# Altium schematic symbol library Connectors.SchLib: 84 symbols (part 2 of 3)
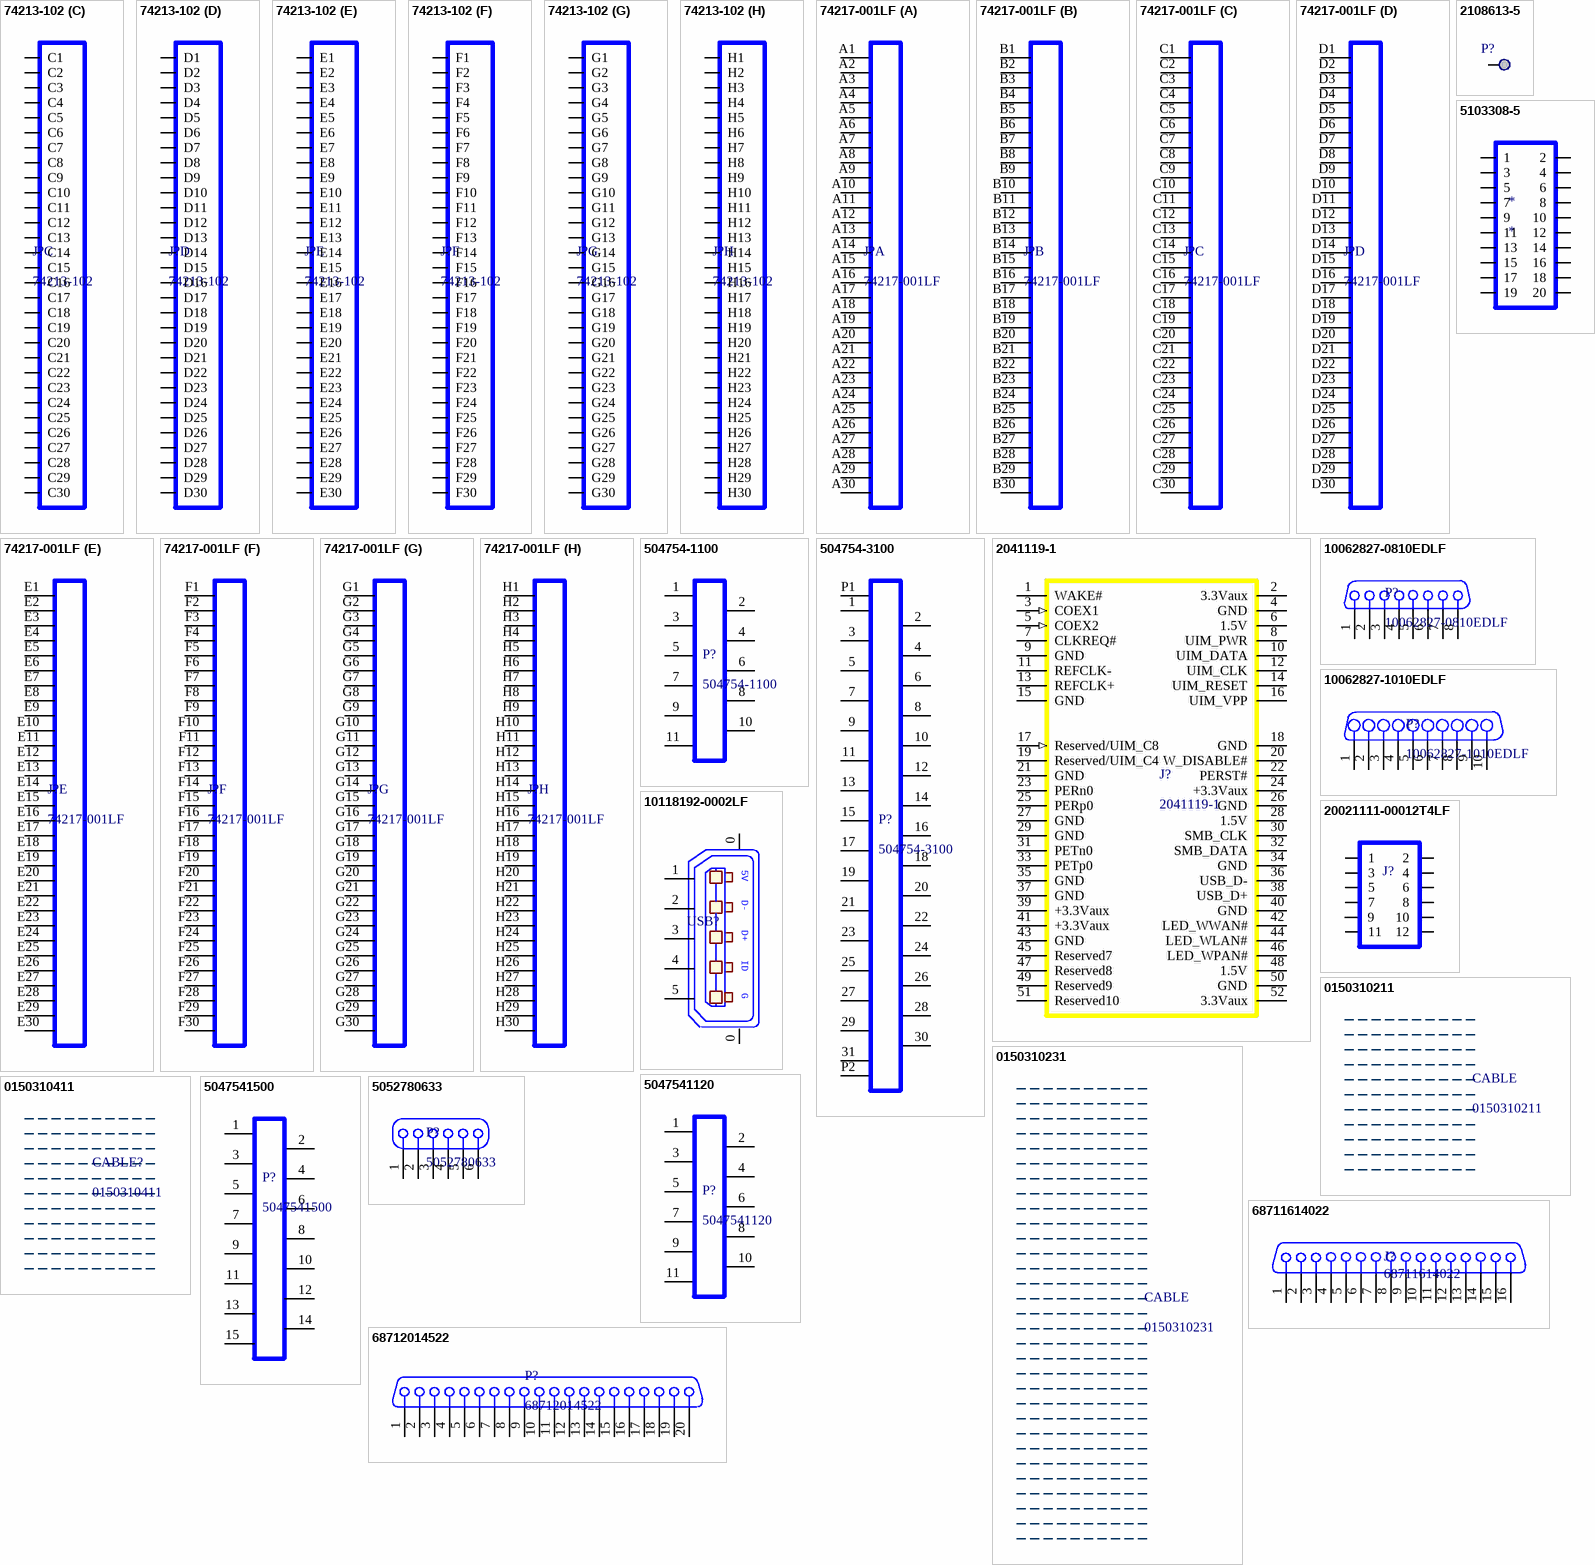
[diagram p4: symbols 74213-102 to 68712014522]

## 68711614022
designator J?
CONN FPC TOP 16POS 0.50MM R/A; Manufacturer: Wurth Electronics Inc; Connector/Contact Type: Contacts, Top; Number of Positions: 16; Pitch: 0.020" (0.50mm); FFC, FCB Thickness: 0.30mm; Locking Feature: Slide Lock; Cable End Type: Tapered; Actuator Material: Liquid Crystal Polymer (LCP); Voltage Rating: 50V; Material Flammability Rating: UL94 V-0; Current Rating: 0.5A; Supplier 1: Digi-Key; Manufacturer Part Number: 68711614022; RoHS: RoHS Compliant; Category: Connectors, Interconnects; Stock 1: 1339; Pricing 1: 1=1.08, 10=1.05, 50=0.978, 100=0.905, 500=0.83276, 1000=0.76056 (GBP); Packaging: Digi-Reel®; Part Status: Active; Flat Flex Type: FPC; Mounting Type: Surface Mount, Right Angle; Termination: Solder; Height Above Board: 0.079" (2.00mm); Contact Material: Phosphor Bronze; Contact Finish: Tin; Housing Material: Liquid Crystal Polymer (LCP); Features: Zero Insertion Force (ZIF); Operating Temperature: -25°C ~ 85°C; ComponentLink1URL: http://katalog.we-online.de/em/datasheet/6871xx14022.pdf; ComponentLink1Description: http://katalog.we-online.de/em/datasheet/6871xx14022.pdf; Supplier Part Number 1: 732-2023-6-ND
footprint 68711614022 (16 pins)
pins: 1, 2, 3, 4, 5, 6, 7, 8, 9, 10, 11, 12, 13, 14, 15, 16

## 68712014522
designator P?
CONN FPC TOP 20POS 0.50MM R/A; Manufacturer: Wurth Electronics Inc; Connector Type: Bottom Contacts; Number of Positions: 20; Pitch: 0.020" (0.50mm); FFC, FCB Thickness: 0.30mm; Cable End Type: Tapered; Locking Feature: Flip Lock; Current Rating: 0.5A; Voltage Rating: 50V; Supplier 1: Digi-Key; Manufacturer Part Number: 68712014522; RoHS: RoHS Compliant; Category: Connectors, Interconnects; Stock 1: 3216; Pricing 1: 1=3.7, 10=3.541, 25=3.2464, 50=3.0986, 100=2.9512, 250=2.58228, 500=2.50846, 1000=2.13958 (EUR); Packaging: Digi-Reel®; Height Above Board: 0.079" (2.00mm); Mounting Type: Surface Mount, Right Angle; Termination: Solder; Features: Zero Insertion Force (ZIF); Contact Finish: Tin; Contact Finish Thickness: 100µin (2.54µm); Operating Temperature: -25°C ~ 85°C; Housing Material: Liquid Crystal Polymer (LCP); ComponentLink1URL: http://katalog.we-online.de/em/datasheet/6871xx14522.pdf; ComponentLink1Description: http://katalog.we-online.de/em/datasheet/6871xx14522.pdf; Supplier Part Number 1: 732-2017-6-ND
footprint WURTH_68712014522 (FFC, 20p, SMD)
pins: 1, 2, 3, 4, 5, 6, 7, 8, 9, 10, 11, 12, 13, 14, 15, 16, 17, 18, 19, 20

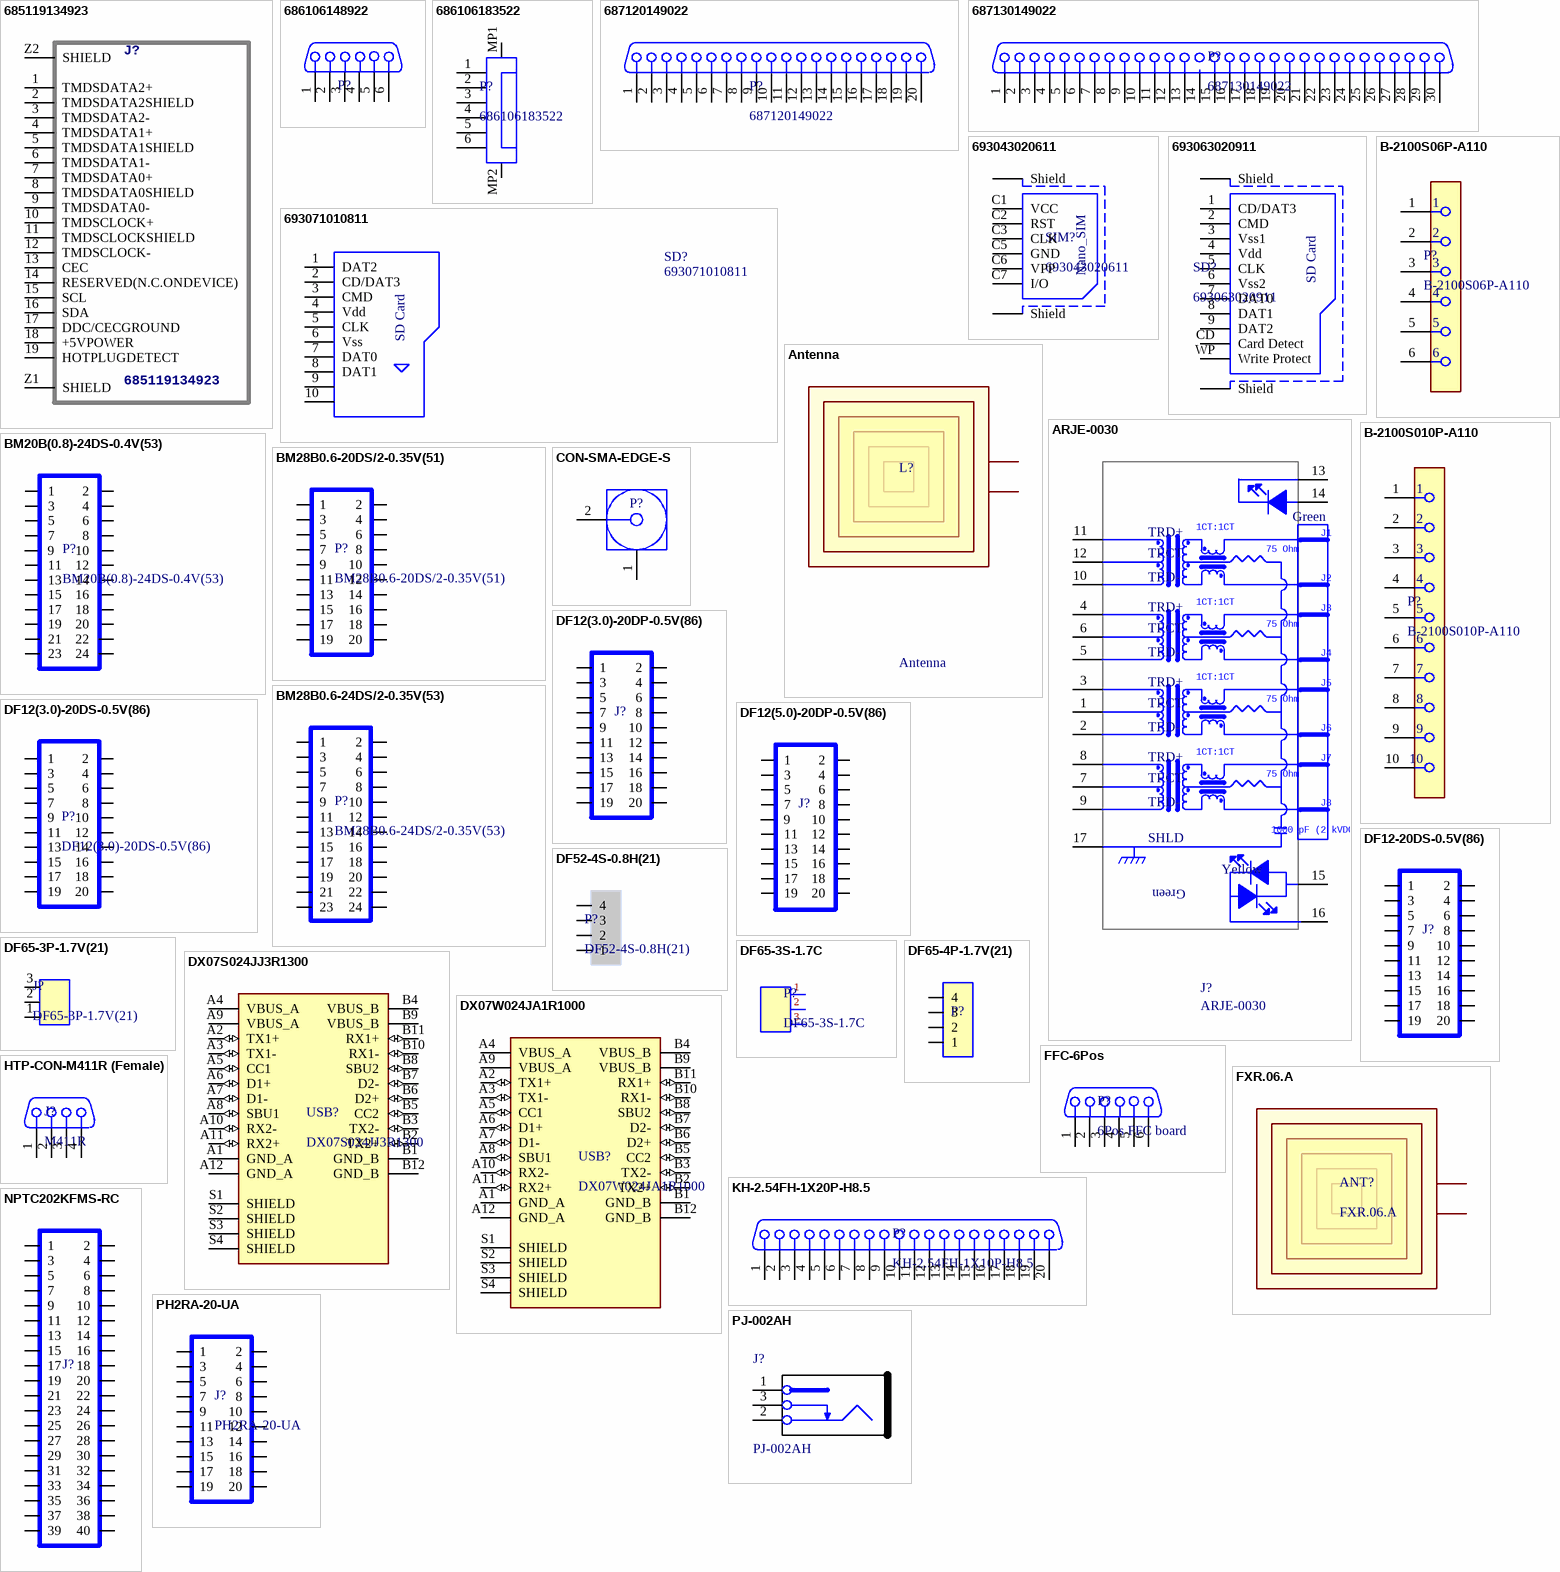
[diagram p2: symbols 685119134923 to PJ-002AH]

## 685119134923
designator J?
CONN RCPT HDMI 19POS SMD R/A; Manufacturer: Wurth Electronics Inc; Number of Contacts: 19; Gender: Receptacle; Supplier 1: Digi-Key; Manufacturer Part Number: 685119134923; RoHS: RoHS Compliant; Category: Connectors, Interconnects; Stock 1: 1468; Pricing 1: 1=2.3, 10=2.234, 50=2.0248, 100=1.8155 (GBP); Packaging: Digi-Reel®; Part Status: Active; Connector Type: HDMI; Specifications: -; Mounting Type: Surface Mount, Right Angle, Horizontal; Features: Board Guide, Shielded; Ingress Protection: -; ComponentLink1URL: http://katalog.we-online.de/em/datasheet/685119134923.pdf; ComponentLink1Description: http://katalog.we-online.de/em/datasheet/685119134923.pdf; Supplier Part Number 1: 732-2737-6-ND
footprint 685119134923
pins: 1 TMDSDATA2+, 2 TMDSDATA2SHIELD, 3 TMDSDATA2-, 4 TMDSDATA1+, 5 TMDSDATA1SHIELD, 6 TMDSDATA1-, 7 TMDSDATA0+, 8 TMDSDATA0SHIELD, 9 TMDSDATA0-, 10 TMDSCLOCK+, 11 TMDSCLOCKSHIELD, 12 TMDSCLOCK-, 13 CEC, 14 RESERVED(N.C.ONDEVICE), 15 SCL, 16 SDA, 17 DDC/CECGROUND, 18 +5VPOWER, 19 HOTPLUGDETECT, Z1 SHIELD, Z2 SHIELD

## 686106148922
designator P?  (value not drawn)
CONN 1MM HORZ BOTTOM SMD 6POS; Manufacturer: Wurth Electronics Inc.; Flat Flex Type: FFC, FPC; Connector/Contact Type: Contacts, Bottom; Number of Positions: 6; Pitch: 0.039" (1.00mm); FFC, FCB Thickness: 0.30mm; Locking Feature: Flip Lock; Cable End Type: Straight; Actuator Material: Polyamide (PA6T), Nylon 6T; Voltage Rating: 100V; Material Flammability Rating: UL94 V-0; Current Rating: 1A; Actuator Color: Black; Mating Cycles: 20; Supplier 1: Digi-Key; Manufacturer Part Number: 686106148922; RoHS: RoHS Compliant; Category: Connectors, Interconnects; Stock: 11440; Pricing: 1=0.96, 50=0.915, 100=0.849, 500=0.784, 1000=0.686 (USD); Packaging: Digi-Reel®; Part Status: Active; Mounting Type: Surface Mount, Right Angle; Termination: Solder; Height Above Board: 0.087" (2.20mm); Contact Material: Phosphor Bronze; Contact Finish: Tin; Housing Material: Polyamide (PA6T), Nylon 6T; Features: Solder Retention, Zero Insertion Force (ZIF); Operating Temperature: -40°C ~ 105°C; Contact Finish Thickness: 120.0µin (3.05µm); Housing Color: Ivory; ComponentLink1URL: http://katalog.we-online.de/em/datasheet/6861xx148922.pdf; ComponentLink1Description: http://katalog.we-online.de/em/datasheet/6861xx148922.pdf; Supplier Part Number 1: 732-6017-6-ND
footprint 686106148922 (ZIF Connectors, Horizontal, Bottom Contact Hinge Type, pitch 1mm, 6p)
pins: 1, 2, 3, 4, 5, 6

## 686106183522
designator P?
WURTH ELEKTRONIK - 686106183522 - CONNECTOR, FPC, RCPT, 6POS, 1MM, SMT; Manufacturer: Wurth Electronics; Supplier 1: Digi-Key; Supplier Part Number 1: 732-11327-1-ND; Manufacturer Part Number: 686106183522; Stock 1: 2503; Pricing 1: 1 = 1.50000, 10 = 1.35000, 100 = 1.15000, 1000 = 1.05001 (USD); RoHS: No
footprint 686106183522 (ZIF Connectors, Horizontal, Bottom Contact Low Profile, pitch 1mm, 6p)
pins: 1, 2, 3, 4, 5, 6, MP1, MP2

## 687120149022
designator P?
CONN .5MM HORZ BOTTOM SMD 20POS; Manufacturer: Wurth Electronics Inc; Flat Flex Type: FFC, FPC; Connector/Contact Type: Contacts, Bottom; Number of Positions: 20; Pitch: 0.020" (0.50mm); FFC, FCB Thickness: 0.30mm; Locking Feature: Flip Lock; Cable End Type: Straight; Actuator Material: Polyamide (PA6T), Nylon 6T; Voltage Rating: 50V; Material Flammability Rating: UL94 V-0; Current Rating: 0.5A; Supplier 1: Digi-Key; Supplier Part Number 1: 732-6002-6-ND; Manufacturer Part Number: 687120149022; RoHS: RoHS Compliant; Category: Connectors, Interconnects; Stock 1: 3528; Pricing 1: 1=1.6, 50=1.527, 100=1.4183, 500=1.30854, 1000=1.14496 (EUR); Packaging: Digi-Reel®; Part Status: Active; Mounting Type: Surface Mount, Right Angle; Termination: Solder; Height Above Board: 0.087" (2.20mm); Contact Material: Phosphor Bronze; Contact Finish: Tin; Housing Material: Polyamide (PA6T), Nylon 6T; Features: Solder Retention, Zero Insertion Force (ZIF); Operating Temperature: -40°C ~ 105°C; ComponentLink1URL: http://katalog.we-online.de/em/datasheet/6871xx149022.pdf; ComponentLink1Description: http://katalog.we-online.de/em/datasheet/6871xx149022.pdf
footprint 687120149022 (WR-FPC 0.50mm SMT Horiz. Bot. Contact Hinge type WR-FPC 0.50mm 20pins Hinge type SMT Horizontal Bottom Contact)
pins: 1, 2, 3, 4, 5, 6, 7, 8, 9, 10, 11, 12, 13, 14, 15, 16, 17, 18, 19, 20

## 687130149022
designator P?
CONN .5MM HORZ BOTTOM SMD 30POS; Manufacturer: Wurth Electronics Inc; Flat Flex Type: FFC, FPC; Connector/Contact Type: Contacts, Bottom; Number of Positions: 30; Pitch: 0.020" (0.50mm); FFC, FCB Thickness: 0.30mm; Locking Feature: Flip Lock; Cable End Type: Straight; Actuator Material: Polyamide (PA6T), Nylon 6T; Voltage Rating: 50V; Material Flammability Rating: UL94 V-0; Current Rating: 0.5A; Supplier 1: Digi-Key; Supplier Part Number 1: 732-6007-6-ND; Manufacturer Part Number: 687130149022; RoHS: RoHS Compliant; Category: Connectors, Interconnects; Stock 1: 3770; Pricing 1: 1=2, 50=1.8928, 100=1.7544, 500=1.62242, 1000=1.41798 (EUR); Packaging: Digi-Reel®; Part Status: Active; Mounting Type: Surface Mount, Right Angle; Termination: Solder; Height Above Board: 0.087" (2.20mm); Contact Material: Phosphor Bronze; Contact Finish: Tin; Housing Material: Polyamide (PA6T), Nylon 6T; Features: Solder Retention, Zero Insertion Force (ZIF); Operating Temperature: -40°C ~ 105°C; ComponentLink1URL: http://katalog.we-online.de/em/datasheet/6871xx149022.pdf; ComponentLink1Description: http://katalog.we-online.de/em/datasheet/6871xx149022.pdf
footprint 687130149022 (WR-FPC 0.50mm SMT Horiz. Bot. Contact Hinge type WR-FPC 0.50mm 30pins Hinge type SMT Horizontal Bottom Contact)
signal-integrity model Model Name (Model Description)
pins: 1, 2, 3, 4, 5, 6, 7, 8, 9, 10, 11, 12, 13, 14, 15, 16, 17, 18, 19, 20, 21, 22, 23, 24, 25, 26, 27, 28, 29, 30

## 693043020611
designator SIM?
CONN SMART CARD PUSH-PULL; Manufacturer: Wurth Electronics Inc; Card Type: NANO SIM; Number of Positions: 6; Connector Type: Connector; Insertion, Removal Method: Push In, Pull Out; Supplier 1: Digi-Key; Supplier Part Number 1: 732-5954-6-ND; Manufacturer Part Number: 693043020611; RoHS: RoHS Compliant; Category: Connectors, Interconnects; Stock 1: 2345; Pricing 1: 1=1.86, 10=1.791, 50=1.6604, 100=1.5294, 500=1.32818 (EUR); Packaging: Digi-Reel®; Ejector Side: -; Mounting Type: Surface Mount, Right Angle; Features: Shielded; Height Above Board: 0.047" (1.20mm); Mounting Feature: Normal, Standard - Top; Contact Finish: Gold; Contact Finish Thickness: -; ComponentLink1URL: http://katalog.we-online.de/em/datasheet/693043020611.pdf; ComponentLink1Description: http://katalog.we-online.de/em/datasheet/693043020611.pdf
footprint 693043020611 (CONN SMART CARD PUSH-PULL)
pins: C1 VCC, C2 RST, C3 CLK, C5 GND, C6 VPP, C7 I/O, Shield, Shield
text: Nano_SIM

## 693063020911
designator SD?
CONN SD CARD PUSH-PULL R/A SMD; Manufacturer: Wurth Electronics Inc; Card Type: Secure Digital - SD; Number of Positions: 11 (9 + 2); Connector Type: Connector; Insertion, Removal Method: Push In, Pull Out; Supplier 1: Digi-Key; Supplier Part Number 1: 732-3818-6-ND; Manufacturer Part Number: 693063020911; RoHS: RoHS Compliant; Category: Connectors, Interconnects; Stock 1: 632; Pricing 1: 1=3.87, 10=3.721, 50=3.2738, 100=3.1251 (EUR); Packaging: Digi-Reel®; Part Status: Active; Ejector Side: -; Mounting Type: Surface Mount, Right Angle; Features: Switch; Height Above Board: 0.110" (2.80mm); Mounting Feature: Normal, Standard - Top; Contact Finish: Gold; Contact Finish Thickness: -; ComponentLink1URL: http://katalog.we-online.de/em/datasheet/693063020911.pdf; ComponentLink1Description: http://katalog.we-online.de/em/datasheet/693063020911.pdf
footprint 693063020911 (WR-CRD SD_Push and Pull_Short Version with Card Detection_9 pins)
pins: 1 CD/DAT3, 2 CMD, 3 Vss1, 4 Vdd, 5 CLK, 6 Vss2, 7 DAT0, 8 DAT1, 9 DAT2, CD Card Detect, Shield, Shield, WP Write Protect
text: SD Card

## 693071010811
designator SD?
WR-CRD Micro SD Card Connector Push & Push - 8 pins; Manufacturer: Wurth Electronics Inc; Card Type: Secure Digital - microSD™; Number of Positions: 9 (8 + 1); Connector Type: Connector and Ejector; Insertion, Removal Method: Push In, Push Out; Published: June 2016; Publisher: Wurth Elektronik; ComponentLink1Description: Manufacturer; ComponentLink1URL: http://www.we-online.de; ComponentLink2Description: Datasheet; ComponentLink2URL: http://katalog.we-online.de/em/datasheet/693071010811.pdf; PartNumber: 693071010811; Supplier 1: Digi-Key; Manufacturer Part Number: 693071010811; RoHS: RoHS Compliant; Category: Connectors, Interconnects; Stock 1: 1613; Pricing 1: 1=2.85, 10=2.74, 50=2.4106, 100=2.301, 500=1.97232 (GBP); Packaging: Digi-Reel®; Part Status: Active; Ejector Side: -; Mounting Type: Surface Mount, Right Angle; Features: Switch; Height Above Board: 0.072" (1.83mm); Mounting Feature: Normal, Standard - Top; Contact Finish: Gold; Contact Finish Thickness: -; Supplier Part Number 1: 732-3819-6-ND
footprint 693071010811 (WR-CRD Micro SD_Push and Push_Card Detection_8 pins)
pins: 1 DAT2, 2 CD/DAT3, 3 CMD, 4 Vdd, 5 CLK, 6 Vss, 7 DAT0, 8 DAT1, 9, 10
text: SD Card

## Antenna
designator L?
Patch Antenna

## ARJE-0030
designator J?
CONN MAGJACK 1PORT 1000 BASE-T; Manufacturer: Abracon LLC; Connector Type: RJ45; Number of Ports: 1; LED Color: Green, Orange - Yellow; Number of Cores per Jack: 8; Shielding: Shielded, EMI Finger; Tab Direction: Up; Supplier 1: Digi-Key; Manufacturer Part Number: ARJE-0030; RoHS: RoHS Compliant; Category: Connectors, Interconnects; Stock 1: 322; Pricing 1: 1=3.92, 10=3.766, 50=3.2956, 100=3.1387, 500=2.66786, 750=2.43247, 1000=2.27553, 2500=2.1186, 5000=2.04013 (GBP); Packaging: Tray; Part Status: Active; Number of Rows: 1; Applications: 10/100/1000 Base-T, AutoMDIX; Mounting Type: Through Hole; Orientation: 90° Angle (Right); Termination: Solder; Height Above Board: 0.541" (13.75mm); Features: Board Guide; Contact Material: -; Contact Finish: -; Contact Finish Thickness: -; Shield Material: -; Housing Material: -; Operating Temperature: 0°C ~ 70°C; ComponentLink1URL: http://www.abracon.com/Magnetics/lan/ARJE-0030.PDF; ComponentLink1Description: http://www.abracon.com/Magnetics/lan/ARJE-0030.PDF; Supplier Part Number 1: 535-12440-ND
footprint ARJE-0030 (CONN MAGJACK 1PORT 1000 BASE-T)
pins: 1, 2, 3, 4, 5, 6, 7, 8, 9, 10, 11, 12, 13, 14, 15, 16, 17
text: Green; 1CT:1CT; TRD+; J1; 75 Ohm; TRCT; TRD-; J2; J3; J4; J5; J6; J7; J8; 1000 pF (2 kVDC); SHLD; Yellow

## B-2100S06P-A110
designator P?
-40℃~+105℃ 1 1x6P 2.54mm 2.54mm 3A 3mm 6P 6mm Black Brass Pin Header Through Hole 插件,P=2.54mm Pin Headers ROHS
footprint FP-SSQ-106-23-F-S-MFG
pins: 1, 2, 3, 4, 5, 6

## B-2100S010P-A110
designator P?
-40℃~+105℃ 1 10P 1x10P 2.54mm 2.54mm 3A 3mm 6mm Black Brass Pin Header Through Hole 插件,P=2.54mm Pin Headers ROHS
footprint FP-SSQ-110-23-F-S
pins: 1, 2, 3, 4, 5, 6, 7, 8, 9, 10

## BM20B(0.8)-24DS-0.4V(53)
designator P?
CONN RECEPT 24POS 0.4MM SMD; Manufacturer: Hirose Electric Co Ltd; Connector Type: Receptacle, Center Strip Contacts; Number of Positions: 24; Pitch: 0.016" (0.40mm); Mated Stacking Heights: 0.8mm; Supplier 1: Digi-Key; Manufacturer Part Number: BM20B(0.8)-24DS-0.4V(53); RoHS: RoHS Compliant; Category: Connectors, Interconnects; Stock: 2387; Pricing: 1=1.34, 10=1.178, 25=1.1088, 50=1.0626, 100=1.0164, 250=0.924, 500=0.8316 (USD); Packaging: Digi-Reel®; Part Status: Active; Mounting Type: Surface Mount; Features: Solder Retention; Contact Finish: Gold; Contact Finish Thickness: -; Height Above Board: 0.031" (0.80mm); ComponentLink1URL: https://www.hirose.com/product/en/download_file/key_name/BM20/category/Catalog/doc_file_id/47513/?file_category_id=4&item_id=236&is_series=1; ComponentLink1Description: https://www.hirose.com/product/en/download_file/key_name/BM20/category/Catalog/doc_file_id/47513/?file_category_id=4&item_id=236&is_series=1; Supplier Part Number 1: H122167DKR-ND
footprint BM20B(0.8)-24DS-0.4V(53)
pins: 1, 2, 3, 4, 5, 6, 7, 8, 9, 10, 11, 12, 13, 14, 15, 16, 17, 18, 19, 20, 21, 22, 23, 24

## BM28B0.6-20DS/2-0.35V(51)
designator P?
Board to Board & Mezzanine Connectors 20P Receptacle Straight SMT; Manufacturer: Hirose; Supplier: Digikey; Supplier Part Number: 26-BM28B0.6-20DS/2-0.35V(51)CT-ND; Manufacturer Part Number: BM28B0.6-20DS/2-0.35V(51); RoHS: Yes; Category: Connectors; Stock: 18173; Pricing: 1=1.05, 10=0.891, 25=0.8544, 50=0.8362, 100=0.7999, 250=0.7272, 500=0.65448, 1000=0.58176, 2500=0.52722 (USD); ComponentLink1URL: https://www.hirose.com/product/download/?distributor=digi&amp;type=catalogue&amp;lang=en&amp;series=BM28&src-supplier=Digikey; ComponentLink1Description: https://www.hirose.com/product/download/?distributor=digi&amp;type=catalogue&amp;lang=en&amp;series=BM28&src-supplier=Digikey; ComponentLink2URL: https://datasheet.octopart.com/BM28B0.6-20DS-2-0.35V%2851%29-Hirose-datasheet-150019143.pdf?src-supplier=Sager+Electronics; ComponentLink2Description: https://datasheet.octopart.com/BM28B0.6-20DS-2-0.35V%2851%29-Hirose-datasheet-150019143.pdf?src-supplier=Sager+Electronics; Supplier 1: Digikey; Supplier Part Number 1: 26-BM28B0.6-20DS/2-0.35V(51)DKR-ND
footprint BM28B0.6-20DS/2-0.35V(51)
pins: 1, 2, 3, 4, 5, 6, 7, 8, 9, 10, 11, 12, 13, 14, 15, 16, 17, 18, 19, 20

## BM28B0.6-24DS/2-0.35V(53)
designator P?
24 Position Straight SMT Type Receptacle Board to Board or Board to FPC; Manufacturer: Hirose; Supplier: Farnell; Supplier Part Number: 3361103; Manufacturer Part Number: BM28B0.6-24DS/2-0.35V(53); RoHS: Yes; Category: Connectors; Stock: 820; Pricing: 1=0,775, 25=0,723, 75=0,671, 200=0,638, 500=0,604 (EUR); ComponentLink1URL: https://www.hirose.com/product/download/?distributor=digi&amp;type=catalogue&amp;lang=en&amp;series=BM28&src-supplier=Digi-Key; ComponentLink1Description: https://www.hirose.com/product/download/?distributor=digi&amp;type=catalogue&amp;lang=en&amp;series=BM28&src-supplier=Digi-Key; ComponentLink2URL: https://datasheet.octopart.com/BM28B0.6-24DS-2-0.35V%2853%29-Hirose-datasheet-155958313.pdf?src-supplier=Sager+Electronics; ComponentLink2Description: https://datasheet.octopart.com/BM28B0.6-24DS-2-0.35V%2853%29-Hirose-datasheet-155958313.pdf?src-supplier=Sager+Electronics; Supplier 1: Farnell; Supplier Part Number 1: 3361103
footprint BM28B06-24DS/2035V(53)
pins: 1, 2, 3, 4, 5, 6, 7, 8, 9, 10, 11, 12, 13, 14, 15, 16, 17, 18, 19, 20, 21, 22, 23, 24

## CON-SMA-EDGE-S
designator P?  (value not drawn)
CONN SMA JACK STR EDGE MNT; Manufacturer: RF Solutions; Connector Type: SMA,Socket; Number of Ports: 1; Supplier 1: Digi-Key; Supplier Part Number 1: CON-SMA-EDGE-S-ND; Manufacturer Part Number: CON-SMA-EDGE-S; RoHS: Yes; Category: RF / Coaxial Connectors; Stock 1: 4182; Pricing 1: 1=1.70000 (USD); Mount: Edge; Case/Package: SMA; Package Quantity: 1; Fastening Type: Threaded; Termination: Solder; ComponentLink1URL: https://media.digikey.com/pdf/Data%20Sheets/RF%20Solutions%20PDFs/CON-SMA-EDGE.pdf?src-supplier=Digi-Key; ComponentLink1Description: https://media.digikey.com/pdf/Data%20Sheets/RF%20Solutions%20PDFs/CON-SMA-EDGE.pdf?src-supplier=Digi-Key
footprint FP-CON-SMA-EDGE-S-MFG
pins: 1 GND (power), 2 Signal "Signal Pin"

## DF12(3.0)-20DP-0.5V(86)
designator J?  (value not drawn)
CONN HEADER 20POS 3MM SMD 0.5MM; Manufacturer: Hirose Electric Co Ltd; Connector Type: Header, Outer Shroud Contacts; Number of Positions: 20; Pitch: 0.020" (0.50mm); Supplier 1: Digi-Key; Manufacturer Part Number: DF12(3.0)-20DP-0.5V(86); RoHS: RoHS Compliant; Category: Connectors, Interconnects; Stock 1: 7297; Pricing 1: 1=0.96, 10=0.842, 25=0.792, 50=0.759, 100=0.726, 250=0.66, 500=0.594 (USD); Packaging: Digi-Reel®; Part Status: Active; Number of Rows: 2; Mounting Type: Surface Mount; Features: Board Guide, Solder Retention; Contact Finish: Gold; Contact Finish Thickness: 8µin (0.20µm); Mated Stacking Heights: 3mm; Height Above Board: 0.091" (2.30mm); ComponentLink1URL: https://www.hirose.com/product/download/?distributor=digikey&type=2d&lang=en&num=DF12(3.0)-20DP-0.5V(86); ComponentLink1Description: https://www.hirose.com/product/download/?distributor=digikey&type=2d&lang=en&num=DF12(3.0)-20DP-0.5V(86); Supplier Part Number 1: H11747DKR-ND
footprint DF12-20DP-0.5V (20 Position Connector Header, Outer Shroud Contacts Surface Mount Gold)
pins: 1, 2, 3, 4, 5, 6, 7, 8, 9, 10, 11, 12, 13, 14, 15, 16, 17, 18, 19, 20

## DF12(3.0)-20DS-0.5V(86)
designator P?
CONN RECEPT 20POS 3MM SMD 0.5MM; Manufacturer: Hirose Electric Co Ltd; Connector Type: Receptacle, Center Strip Contacts; Number of Positions: 20; Pitch: 0.020" (0.50mm); Supplier 1: Digi-Key; Manufacturer Part Number: DF12(3.0)-20DS-0.5V(86); RoHS: RoHS Compliant; Category: Connectors, Interconnects; Stock: 9700; Pricing: 1=0.89, 10=0.785, 25=0.7392, 50=0.7084, 100=0.6776, 250=0.616, 500=0.5544 (USD); Packaging: Digi-Reel®; Part Status: Active; Mounting Type: Surface Mount; Features: Board Guide, Solder Retention; Contact Finish: Gold; Contact Finish Thickness: 8.00µin (0.203µm); Mated Stacking Heights: 3mm; Height Above Board: 0.087" (2.20mm); ComponentLink1URL: https://www.hirose.com/product/download/?distributor=digikey&type=2d&lang=en&num=DF12(3.0)-20DS-0.5V(86); ComponentLink1Description: https://www.hirose.com/product/download/?distributor=digikey&type=2d&lang=en&num=DF12(3.0)-20DS-0.5V(86); Supplier Part Number 1: H11748DKR-ND
footprint DF12(3.0)-20DS-0.5V(86)
pins: 1, 2, 3, 4, 5, 6, 7, 8, 9, 10, 11, 12, 13, 14, 15, 16, 17, 18, 19, 20

## DF12(5.0)-20DP-0.5V(86)
designator J?  (value not drawn)
CONN HEADER 20POS 5MM SMD 0.5MM; Manufacturer: Hirose Electric Co Ltd; Connector Type: Header, Outer Shroud Contacts; Number of Positions: 20; Pitch: 0.020" (0.50mm); Supplier 1: Digi-Key; Manufacturer Part Number: DF12(5.0)-20DP-0.5V(86); RoHS: RoHS Compliant; Category: Connectors, Interconnects; Stock 1: 8448; Pricing 1: 1=1.02, 10=0.898, 25=0.8448, 50=0.8096, 100=0.7744, 250=0.704, 500=0.6336 (USD); Packaging: Digi-Reel®; Part Status: Active; Number of Rows: 2; Mounting Type: Surface Mount; Features: Board Guide, Solder Retention; Contact Finish: Gold; Contact Finish Thickness: 8µin (0.20µm); Mated Stacking Heights: 5mm; Height Above Board: 0.169" (4.30mm); ComponentLink1URL: https://www.hirose.com/product/download/?distributor=digikey&type=2d&lang=en&num=DF12(5.0)-20DP-0.5V(86); ComponentLink1Description: https://www.hirose.com/product/download/?distributor=digikey&type=2d&lang=en&num=DF12(5.0)-20DP-0.5V(86); Supplier Part Number 1: H5244DKR-ND
footprint DF12-20DP-0.5V (20 Position Connector Header, Outer Shroud Contacts Surface Mount Gold)
pins: 1, 2, 3, 4, 5, 6, 7, 8, 9, 10, 11, 12, 13, 14, 15, 16, 17, 18, 19, 20

## DF12-20DS-0.5V(86)
designator J?  (value not drawn)
CONN RECEPT 20POS 0.5MM GOLD SMD; Manufacturer: Hirose Electric Co Ltd; Connector Type: Receptacle, Center Strip Contacts; Number of Positions: 20; Pitch: 0.020" (0.50mm); Mated Stacking Heights: 3.5mm, 4mm, 5mm; Supplier 1: Digi-Key; Manufacturer Part Number: DF12-20DS-0.5V(86); RoHS: RoHS Compliant; Category: Connectors, Interconnects; Stock 1: 16949; Pricing 1: 1=0.96, 10=0.842, 25=0.792, 50=0.759, 100=0.726, 250=0.66, 500=0.594 (USD); Packaging: Digi-Reel®; Part Status: Active; Number of Rows: 2; Mounting Type: Surface Mount; Features: Board Guide, Solder Retention; Contact Finish: Gold; Contact Finish Thickness: 8µin (0.20µm); Height Above Board: 0.106" (2.70mm); ComponentLink1URL: https://www.hirose.com/product/download/?distributor=digikey&type=2d&lang=en&num=DF12-20DS-0.5V(86); ComponentLink1Description: https://www.hirose.com/product/download/?distributor=digikey&type=2d&lang=en&num=DF12-20DS-0.5V(86); Supplier Part Number 1: H5214DKR-ND
footprint DF12-20DS-0.5V (20 Position Connector Header, Outer Shroud Contacts Surface Mount Gold)
pins: 1, 2, 3, 4, 5, 6, 7, 8, 9, 10, 11, 12, 13, 14, 15, 16, 17, 18, 19, 20

## DF52-4S-0.8H(21)
designator P?
CONN RCPT 0.8MM 4POS R/A PCB; Manufacturer: Hirose; Number of Positions: 4; Connector Type: Socket,Non-Gendered; Pitch: 0.031inch; Supplier 1: Digi-Key; Manufacturer Part Number: DF52-4S-0.8H(21); RoHS: Yes; Category: Connectors; Stock 1: 6751; Pricing 1: 1=0.48000, 10=0.45200, 25=0.40680, 50=0.36160, 100=0.34660, 250=0.31648, 500=0.30140, 1000=0.24866, 2500=0.22605 (USD); Mount: Surface Mount; Number of Pins: 4; Color: Black; Contact Plating: Tin; Packaging: Tape and Reel; Number of Rows: 1; Termination: Solder; Fastening Type: Detent; ComponentLink1URL: http://www.farnell.com/datasheets/2691054.pdf?src-supplier=Farnell; ComponentLink1Description: http://www.farnell.com/datasheets/2691054.pdf?src-supplier=Farnell; ComponentLink2URL: https://media.digikey.com/pdf/Data%20Sheets/Hirose%20PDFs/DF52.pdf?src-supplier=Digi-Key; ComponentLink2Description: https://media.digikey.com/pdf/Data%20Sheets/Hirose%20PDFs/DF52.pdf?src-supplier=Digi-Key; ComponentLink3URL: https://www.hirose.com/product/download/?distributor=digikey&type=2d&lang=en&num=DF52-4S-0.8H(21)&src-supplier=Mouser; ComponentLink3Description: https://www.hirose.com/product/download/?distributor=digikey&type=2d&lang=en&num=DF52-4S-0.8H(21)&src-supplier=Mouser; ComponentLink4URL: https://www.hirose.com/product/download/?distributor=digikey&type=2d&lang=en&num=DF52-4S-0.8H(21)&src-supplier=RSComponents; ComponentLink4Description: https://www.hirose.com/product/download/?distributor=digikey&type=2d&lang=en&num=DF52-4S-0.8H(21)&src-supplier=RSComponents; ComponentLink5URL: https://www.hirose.com/product/download/?distributor=digikey&type=2d&lang=en&num=DF52-4S-0.8H(21)&src-supplier=Avnet+Europe; ComponentLink5Description: https://www.hirose.com/product/download/?distributor=digikey&type=2d&lang=en&num=DF52-4S-0.8H(21)&src-supplier=Avnet+Europe; ComponentLink6URL: https://www.hirose.com/product/download/?distributor=digikey&type=2d&lang=en&num=DF52-4S-0.8H(21)&src-supplier=Digi-Key; ComponentLink6Description: https://www.hirose.com/product/download/?distributor=digikey&type=2d&lang=en&num=DF52-4S-0.8H(21)&src-supplier=Digi-Key; ComponentLink7URL: https://www.hirose.com/product/download/?distributor=digikey&type=2d&lang=en&num=DF52-4S-0.8H(21)&src-supplier=Sager+Electronics; ComponentLink7Description: https://www.hirose.com/product/download/?distributor=digikey&type=2d&lang=en&num=DF52-4S-0.8H(21)&src-supplier=Sager+Electronics; ComponentLink8URL: https://www.hirose.com/product/download/?distributor=digikey&type=2d&lang=en&num=DF52-4S-0.8H(21)&src-supplier=Interstate+Connecting+Components; ComponentLink8Description: https://www.hirose.com/product/download/?distributor=digikey&type=2d&lang=en&num=DF52-4S-0.8H(21)&src-supplier=Interstate+Connecting+Components; ComponentLink9URL: https://www.hirose.com/product/download/?distributor=digikey&type=2d&lang=en&num=DF52-4S-0.8H(21)&src-supplier=Heilind+Electronics; ComponentLink9Description: https://www.hirose.com/product/download/?distributor=digikey&type=2d&lang=en&num=DF52-4S-0.8H(21)&src-supplier=Heilind+Electronics; Supplier Part Number 1: H125098CT-ND
footprint DF52-4S-0.8H(21) (CONN SOCKET 4P 0.031 TIN SMD R/A)
pins: 1, 2, 3, 4

## DF65-3P-1.7V(21)
designator J?
CONN HDR 1.7MM SMD TIN 3POS; Manufacturer: Hirose Electric Co Ltd; Connector Type: Header, Unshrouded; Number of Positions: 3; Number of Positions Loaded: All; Pitch: 0.067" (1.70mm); Supplier 1: Digi-Key; Supplier Part Number 1: H122499DKR-ND; Manufacturer Part Number: DF65-3P-1.7V(21); RoHS: RoHS Compliant; Category: Connectors, Interconnects; Stock 1: 2669; Pricing 1: 1=0.75, 10=0.662, 25=0.6236, 50=0.5978, 100=0.5717, 250=0.51972, 500=0.46776, 1000=0.41578 (EUR); Packaging: Digi-Reel®; Contact Type: Blade Pin; Number of Rows: 1; Row Spacing: -; Contact Mating Length: -; Mounting Type: Surface Mount; Termination: Solder; Fastening Type: Latch Lock; Features: Solder Retention; Contact Finish: Tin; Contact Finish Thickness: -; Color: Black; ComponentLink1URL: http://www.hirose.co.jp/cataloge_hp/ed_DF65_20140305.pdf; ComponentLink1Description: http://www.hirose.co.jp/cataloge_hp/ed_DF65_20140305.pdf
footprint DF65-3P-1.7C (1.7 mm pitch, Low Profile Board to Wire Connectors for Power Supplies)
signal-integrity model Model Name (Model Description)
pins: 1, 2, 3

## DF65-3S-1.7C
designator P?
CONN RCPT 1.7MM 3POS; Manufacturer: Hirose Electric Co Ltd; Connector Type: Receptacle; Number of Positions: 3; Pitch: 0.067" (1.70mm); Contact Termination: Crimp; Note: Contacts Not Provided; Supplier 1: Digi-Key; Supplier Part Number 1: H122503-ND; Manufacturer Part Number: DF65-3S-1.7C; RoHS: RoHS Compliant; Category: Connectors, Interconnects; Stock 1: 697; Pricing 1: 1=0.14, 10=0.138, 25=0.118, 50=0.1032, 100=0.0958, 250=0.0848, 500=0.08108, 1000=0.06634, 2500=0.06081 (EUR); Packaging: Bulk; Part Status: Active; Contact Type: Female Blade Socket; Number of Rows: 1; Row Spacing: -; Mounting Type: Free Hanging (In-Line); Fastening Type: Latch Lock; Color: Beige; Features: -; ComponentLink1URL: https://www.hirose.com/product/en/download_file/key_name/DF65/category/Catalog/doc_file_id/31621/?file_category_id=4&item_id=48&is_series=1; ComponentLink1Description: https://www.hirose.com/product/en/download_file/key_name/DF65/category/Catalog/doc_file_id/31621/?file_category_id=4&item_id=48&is_series=1
footprint DF65-3S-1.7C (1.7 mm pitch, Low Profile Board to Wire Connectors for Power Supplies)
text: 2

## DF65-4P-1.7V(21)
designator P?  (value not drawn)
CONN HDR 1.7MM SMD TIN 4POS; Manufacturer: Hirose Electric Co Ltd; Connector Type: Header; Pitch - Mating: 0.067" (1.70mm); Number of Positions: 4; Number of Positions Loaded: All; Style: Board to Cable/Wire; Shrouding: Shrouded - 3 Wall; Material Flammability Rating: UL94 V-0; Supplier 1: Digi-Key; Manufacturer Part Number: DF65-4P-1.7V(21); RoHS: RoHS Compliant; Category: Connectors, Interconnects; Stock: 391; Pricing: 1=1.05, 10=0.926, 100=0.7986, 500=0.6534, 1000=0.5808 (USD); Packaging: Digi-Reel®; Part Status: Active; Contact Type: Male Blade; Number of Rows: 1; Row Spacing - Mating: -; Mounting Type: Surface Mount; Termination: Solder; Fastening Type: Latch Lock; Contact Length - Mating: -; Contact Length - Post: -; Overall Contact Length: -; Insulation Height: 0.065" (1.65mm); Contact Shape: Rectangular; Contact Finish - Mating: Tin; Contact Finish Thickness - Mating: -; Contact Finish - Post: Tin; Contact Material: Brass; Insulation Material: Liquid Crystal Polymer (LCP); Features: Solder Retention; Operating Temperature: -40°C ~ 105°C; Ingress Protection: -; Insulation Color: Black; Current Rating: -; Voltage Rating: -; Mated Stacking Heights: -; Contact Finish Thickness - Post: -; Applications: -; ComponentLink1URL: https://www.hirose.com/product/download/?distributor=digikey&type=2d&lang=en&num=DF65-4P-1.7V(21); ComponentLink1Description: https://www.hirose.com/product/download/?distributor=digikey&type=2d&lang=en&num=DF65-4P-1.7V(21); Supplier Part Number 1: H122500DKR-ND
footprint DF65-4P-1.7V
pins: 1, 2, 3, 4

## DX07S024JJ3R1300
designator USB?
Cut Tape - Usb Type C Receptacle Mid Mnt Dual R; Manufacturer: JAE Electronics; Number of Contacts: 24; Number of Ports: 1; Voltage Rating: 20V; Mating Cycles: 10000; Shielding: Shielded; Current Rating: 5A; Manufacturer Part Number: DX07S024JJ3R1300; RoHS: Yes; Category: USB Connectors; Stock: 21875; Pricing: 1=1.78, 10=1.612, 25=1.5272, 50=1.4916, 100=1.4205, 250=1.25048 (USD); Mounting Technology: Surface Mount,Through Hole,Horizontal; Contact Plating: Gold; Insulation Color: Black; Contact Material: 153,157ConductorMaterial; Min Operating Temperature: -30°C; Max Operating Temperature: 80°C; Packaging: Cut Tape; Connector Type: USB; Gender: Receptacle; Series: DX07; Termination: Solder; Height: 3.29mm; RoHS Compliant: Yes; ComponentLink1URL: http://www.alliedelec.com/m/d/e03b7b5d71e2d3e369c52d5c8eaca2b6.pdf?src-supplier=Allied+Electronics; ComponentLink1Description: http://www.alliedelec.com/m/d/e03b7b5d71e2d3e369c52d5c8eaca2b6.pdf?src-supplier=Allied+Electronics; ComponentLink2URL: http://www.jae.com/z-en/pdf_download_exec.cfm?param=SJ115995.pdf&src-supplier=Digikey; ComponentLink2Description: http://www.jae.com/z-en/pdf_download_exec.cfm?param=SJ115995.pdf&src-supplier=Digikey; Supplier 1: Mouser; Supplier Part Number 1: 656-DX07S024JJ3R1300; Supplier 2: Digikey; Supplier Part Number 2: 670-2846-1-ND
footprint JAE-DX07S024JJ3R1300-MFG
pins: A1 GND_A (power), A2 TX1+ (io), A3 TX1- (io), A4 VBUS_A, A5 CC1 (io), A6 D1+ (io), A7 D1- (io), A8 SBU1 (io), A9 VBUS_A, A10 RX2- (io), A11 RX2+ (io), A12 GND_A (power), B1 GND_B (power), B2 TX2+ (io), B3 TX2- (io), B4 VBUS_B, B5 CC2 (io), B6 D2+ (io), B7 D2- (io), B8 SBU2 (io), B9 VBUS_B, B10 RX1- (io), B11 RX1+ (io), B12 GND_B (power), S1 SHIELD, S2 SHIELD, S3 SHIELD, S4 SHIELD

## DX07W024JA1R1000
designator USB?
Conn Rcpt USB3.1 Typec 24POS SMD; Manufacturer: JAE Electronics; Connector Type: USB; Number of Contacts: 24; Gender: Receptacle; Number of Ports: 1; Mating Cycles: 10000; Shielding: Shielded; Ratings: Waterproof; Supplier: Digi-Key; Supplier Part Number: 670-3100-1-ND; Manufacturer Part Number: DX07W024JA1R1000; RoHS: Yes; Category: Connectors; Stock: 905; Pricing: 1=4,19, 10=3,808, 25=3,6068, 50=3,523, 100=3,3552, 250=2,9358, 500=2,8519 (USD); Mounting Technology: Surface Mount,Edge,Board,Horizontal; Contact Plating: Gold; Insulation Color: Black; Min Operating Temperature: -30°C; Max Operating Temperature: 80°C; Packaging: Cut Tape; Termination: Solder; Series: DX07; ComponentLink1URL: https://www.jae.com/direct/topics/topics_file_download/?topics_id=66519&amp;ext_no=04&amp;_lang=en&src-supplier=Digi-Key; ComponentLink1Description: https://www.jae.com/direct/topics/topics_file_download/?topics_id=66519&amp;ext_no=04&amp;_lang=en&src-supplier=Digi-Key; ComponentLink2URL: http://www.jae.com/z-en/pdf_download_exec.cfm?param=SJ119583.pdf&src-supplier=Digi-Key; ComponentLink2Description: http://www.jae.com/z-en/pdf_download_exec.cfm?param=SJ119583.pdf&src-supplier=Digi-Key; Supplier 1: Digi-Key; Supplier Part Number 1: 670-3100-1-ND
footprint JAE_DX07W024JA1R1000
pins: A1 GND_A (power), A2 TX1+ (io), A3 TX1- (io), A4 VBUS_A (power), A5 CC1 (io), A6 D1+ (io), A7 D1- (io), A8 SBU1 (io), A9 VBUS_A (power), A10 RX2- (io), A11 RX2+ (io), A12 GND_A (power), B1 GND_B (power), B2 TX2+ (io), B3 TX2- (io), B4 VBUS_B (power), B5 CC2 (io), B6 D2+ (io), B7 D2- (io), B8 SBU2 (io), B9 VBUS_B (power), B10 RX1- (io), B11 RX1+ (io), B12 GND_B (power), S1 SHIELD, S2 SHIELD, S3 SHIELD, S4 SHIELD

## FFC-6Pos
designator P?, comment 6Pos FFC board  (no BOM)
footprint FFC-6Pos (1mm pitch 6 pos FFC)
pins: 1, 2, 3, 4, 5, 6

## FXR.06.A
designator ANT?
ANT NFC FLEX SQUARE 47X47X0.24MM; Manufacturer: Taoglas Limited; Frequency Group: VHF (f < 300 MHz); Frequency (Center/Band): 13.56MHz; Antenna Type: Flat Patch; Number of Bands: 1; Supplier 1: Digi-Key; Supplier Part Number 1: 931-1373-ND; Manufacturer Part Number: FXR.06.A; RoHS: RoHS Compliant; Category: RF/IF and RFID; Stock 1: 99; Pricing 1: 1=3.49, 100=3.3794, 500=3.09238, 1000=2.92573, 5000=2.604 (EUR); Packaging: Bulk; Part Status: Active; Frequency Range: -; VSWR: -; Return Loss: -; Gain: -; Power - Max: -; Features: -; Termination: Solder; Ingress Protection: -; Mounting Type: Adhesive; Height (Max): 0.009" (0.24mm); Applications: -; ComponentLink1URL: http://taoglas.com/images/product_images/original_images/FXR.06.A.pdf; ComponentLink1Description: http://taoglas.com/images/product_images/original_images/FXR.06.A.pdf
footprint FXR.06.A (NFC Antenna)

## HTP-CON-M411R (Female)
designator J?, comment M411R
Manufacturer: HytePro Technologies; Manufacturer Part Number: HTP-CON-M411R (Female)
footprint HTP-CON-M411R (Female)
pins: 1, 2, 3, 4

## KH-2.54FH-1X20P-H8.5
designator P?, comment KH-2.54FH-1X10P-H8.5
1x20P 2.54mm 3A 8.5mm Square Hole Through Hole Top Plugin,P=2.54mm Female Headers ROHS
footprint KH-2.54FH-1X20P-H8.5
pins: 1, 2, 3, 4, 5, 6, 7, 8, 9, 10, 11, 12, 13, 14, 15, 16, 17, 18, 19, 20

## NPTC202KFMS-RC
designator J?  (value not drawn)
CONN FEMALE 40POS DL .1" TIN SMD; Manufacturer: Sullins Connector Solutions; Connector Type: Header; Number of Positions: 40; Number of Positions Loaded: All; Pitch: 0.100" (2.54mm); Supplier 1: Digi-Key; Supplier Part Number 1: S5690-ND; Manufacturer Part Number: NPTC202KFMS-RC; RoHS: RoHS Compliant; Category: Connectors, Interconnects; Stock 1: 1093; Pricing 1: 1=3.66, 10=3.095, 25=2.954, 50=2.673, 100=2.3915, 250=2.1102, 500=1.96948, 1000=1.82881, 2500=1.75848 (EUR); Packaging: Tube; Part Status: Active; Contact Type: Female Socket; Number of Rows: 2; Row Spacing: 0.100" (2.54mm); Mounting Type: Surface Mount; Termination: Solder; Fastening Type: -; Features: -; Contact Finish: Tin; Contact Finish Thickness: -; Color: Black; ComponentLink1URL: http://sullinscorp.com/drawings/103_NPxCxx2KFMx-RC,_10488-G.pdf; ComponentLink1Description: http://sullinscorp.com/drawings/103_NPxCxx2KFMx-RC,_10488-G.pdf
signal-integrity model Model Name (Model Description)
footprint NPTC202KFMS-RC
pins: 1, 2, 3, 4, 5, 6, 7, 8, 9, 10, 11, 12, 13, 14, 15, 16, 17, 18, 19, 20, 21, 22, 23, 24, 25, 26, 27, 28, 29, 30, 31, 32, 33, 34, 35, 36, 37, 38, 39, 40

## PH2RA-20-UA
designator J?
Conn Unshrouded Header HDR 20 POS 2.54mm Solder ST Top Entry Thru-Hole Bag; Manufacturer: Adam Equipment; Supplier: Digikey; Supplier Part Number: 2057-PH2RA-20-UA-ND; Manufacturer Part Number: PH2RA-20-UA; RoHS: No; Category: Headers and Wire Housings; Stock: 2632; Pricing: 1=0.44, 10=0.387, 100=0.3194, 500=0.27776, 1000=0.22914, 5000=0.20137, 10000=0.18748 (USD); Supplier 1: Digikey; Supplier Part Number 1: 2057-PH2RA-20-UA-ND
footprint PH2RA-20-UA
pins: 1, 2, 3, 4, 5, 6, 7, 8, 9, 10, 11, 12, 13, 14, 15, 16, 17, 18, 19, 20

## PJ-002AH
designator J?
DC Power Jack Connector, 2.0 mm Center Pin, 5.0 A, Right Angle, Through Hole; Manufacturer: CUI Inc; .Checked PCB: used; Mating connector: 2.1mm ID, 5.5mm OD; Gender: Male; Number of Positions/Contacts: 2 Conductors, 3 Contacts; Internal Switch(s): Single Switch, Normally Closed; Shielding: Unshielded; Voltage - Rated: 24VDC; Current Rating: 5A; .Checked SCH: used; Category: Connectors, Interconnects; Family: Barrel - Power; Manufacturer Part Number: PJ-002AH; Operating Temperature: -25°C ~ 85°C; Price 1k [$]: 0.23625; Supplier: Digikey; Supplier Part Number: CP-002AH-ND; Value: PJ-002AH; Supplier 1: Digi-Key; Supplier Part Number 1: CP-002AH-ND; RoHS: RoHS Compliant; Stock 1: 138933; Pricing 1: 1=1.01, 10=0.704, 100=0.4724, 500=0.3819, 1000=0.3417, 2500=0.27135 (USD); Connector Type: Jack; Plug/Mating Plug Diameter: 2.1mm ID, 5.5mm OD; Mounting Type: Through Hole, Right Angle; Termination: Solder Eyelet(s); Features: -; Color: Black; Contact Material: Copper Alloy; Contact Material - Plating: Nickel; Housing Color: Black; Housing Material: Thermoplastic; ComponentLink1URL: http://products.cui.com/GetSpecForDigiKey.aspx?MFGNum=PJ-002AH; ComponentLink1Description: http://products.cui.com/GetSpecForDigiKey.aspx?MFGNum=PJ-002AH
footprint POWER_JACK_5.5_2.1MM_NS
pins: 1, 2, 3

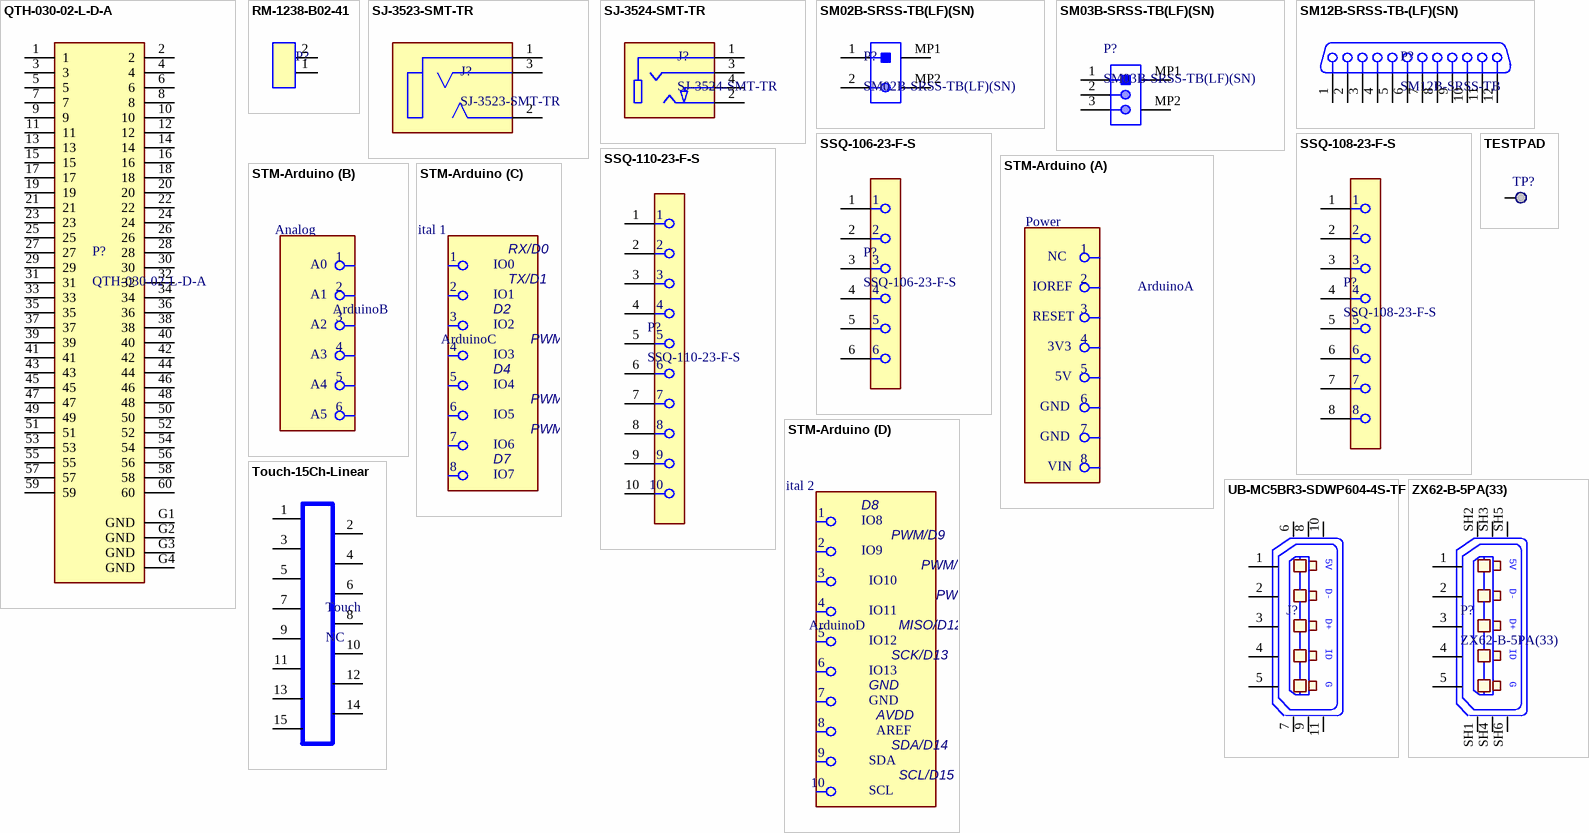
[diagram p3: symbols QTH-030-02-L-D-A to ZX62-B-5PA(33)]

## QTH-030-02-L-D-A
designator P?
Conn Micro High Speed Terminal Strip HDR 60 POS 0.5mm Solder ST Top Entry SMD Q Strip® Tray; Manufacturer: Samtec; Supplier: Digikey; Supplier Part Number: SAM8186-ND; Manufacturer Part Number: QTH-030-02-L-D-A; RoHS: Yes; Category: Connectors; Stock: 2295; Pricing: 1=8.57, 65=7.08108, 130=6.89477, 455=5.7767, 975=5.10586 (USD); ComponentLink1URL: https://datasheet.ciiva.com/25617/0900766b8115bb1b-25617171.pdf?src-supplier=Rs; ComponentLink1Description: https://datasheet.ciiva.com/25617/0900766b8115bb1b-25617171.pdf?src-supplier=Rs; ComponentLink2URL: https://datasheet.ciiva.com/7990/81723-7990298.pdf?src-supplier=Element14; ComponentLink2Description: https://datasheet.ciiva.com/7990/81723-7990298.pdf?src-supplier=Element14; ComponentLink3URL: https://datasheet.ciiva.com/394/qth-xxx-xx-x-d-xxx-mkt-394750.pdf?src-supplier=Digikey; ComponentLink3Description: https://datasheet.ciiva.com/394/qth-xxx-xx-x-d-xxx-mkt-394750.pdf?src-supplier=Digikey; ComponentLink4URL: https://datasheet.ciiva.com/9697/qth-9697847.pdf?src-supplier=Avnet; ComponentLink4Description: https://datasheet.ciiva.com/9697/qth-9697847.pdf?src-supplier=Avnet; Supplier 1: Rs; Supplier Part Number 1: 7678748
footprint QTH-030-02-F-D-A-K-TR
pins: 1, 2, 3, 4, 5, 6, 7, 8, 9, 10, 11, 12, 13, 14, 15, 16, 17, 18, 19, 20, 21, 22, 23, 24, 25, 26, 27, 28, 29, 30, 31, 32, 33, 34, 35, 36, 37, 38, 39, 40, 41, 42, 43, 44, 45, 46, 47, 48, 49, 50, 51, 52, 53, 54, 55, 56, 57, 58, 59, 60, G1 GND (power), G2 GND (power), G3 GND (power), G4 GND (power)

## RM-1238-B02-41
designator P?  (value not drawn)
RM-1238-B02-41 by www.xtpogopin.com; Manufacturer: XTPogoPin; Manufacturer Part Number: RM-1238-B02-41
footprint RM-1238-B02-41_2
pins: 1, 2